# Altium schematic symbol library General.SchLib: 201 symbols (part 3 of 3)
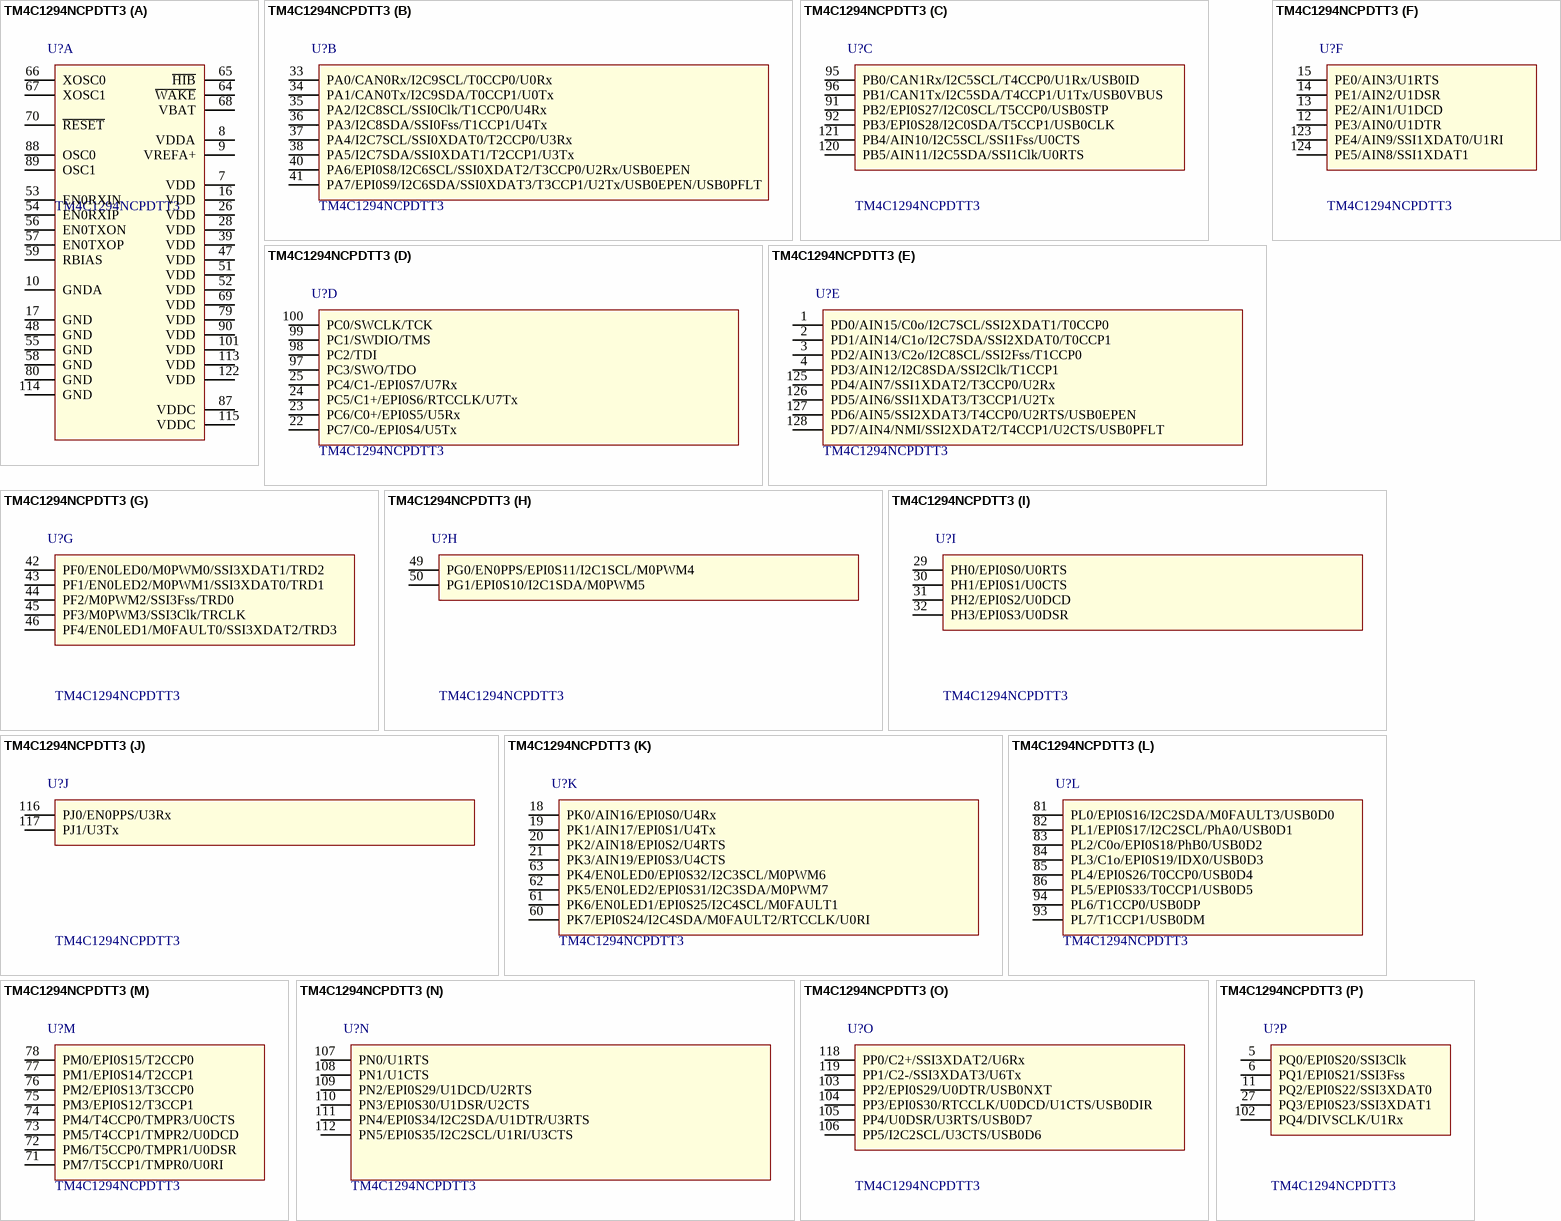
[diagram p9: symbol TM4C1294NCPDTT3]

## TM4C1294NCPDTT3
designator U?  Part Number: TM4C1294NCPDTT3  (hidden comment: *)
IC MCU 32BIT 1024KB FLASH 128TQF; Manufacturer: Texas Instruments; Supplier 1: Digi-Key; Supplier Part Number 1: 296-37943-ND; Supplier 2: Mouser; Supplier Part Number 2: 595-TM4C1294NCPDTT3
footprint TQFP128 - TSQFP40P1600X1600X120-128N (TSQFP, 128-Leads, Body 14.00x14.00mm, Pitch 0.40mm, IPC Medium Density)
part A pins: 7 VDD, 8 VDDA, 9 VREFA+, 10 GNDA, 16 VDD, 17 GND, 26 VDD, 28 VDD, 39 VDD, 47 VDD, 48 GND, 51 VDD, 52 VDD, 53 EN0RXIN, 54 EN0RXIP, 55 GND, 56 EN0TXON, 57 EN0TXOP, 58 GND, 59 RBIAS, 64 ~{WAKE}, 65 ~{HIB}, 66 XOSC0, 67 XOSC1, 68 VBAT, 69 VDD, 70 ~{RESET}, 79 VDD, 80 GND, 87 VDDC, 88 OSC0, 89 OSC1, 90 VDD, 101 VDD, 113 VDD, 114 GND, 115 VDDC, 122 VDD
part B pins: 33 PA0/CAN0Rx/I2C9SCL/T0CCP0/U0Rx, 34 PA1/CAN0Tx/I2C9SDA/T0CCP1/U0Tx, 35 PA2/I2C8SCL/SSI0Clk/T1CCP0/U4Rx, 36 PA3/I2C8SDA/SSI0Fss/T1CCP1/U4Tx, 37 PA4/I2C7SCL/SSI0XDAT0/T2CCP0/U3Rx, 38 PA5/I2C7SDA/SSI0XDAT1/T2CCP1/U3Tx, 40 PA6/EPI0S8/I2C6SCL/SSI0XDAT2/T3CCP0/U2Rx/USB0EPEN, 41 PA7/EPI0S9/I2C6SDA/SSI0XDAT3/T3CCP1/U2Tx/USB0EPEN/USB0PFLT
part C pins: 91 PB2/EPI0S27/I2C0SCL/T5CCP0/USB0STP, 92 PB3/EPI0S28/I2C0SDA/T5CCP1/USB0CLK, 95 PB0/CAN1Rx/I2C5SCL/T4CCP0/U1Rx/USB0ID, 96 PB1/CAN1Tx/I2C5SDA/T4CCP1/U1Tx/USB0VBUS, 120 PB5/AIN11/I2C5SDA/SSI1Clk/U0RTS, 121 PB4/AIN10/I2C5SCL/SSI1Fss/U0CTS
part D pins: 22 PC7/C0-/EPI0S4/U5Tx, 23 PC6/C0+/EPI0S5/U5Rx, 24 PC5/C1+/EPI0S6/RTCCLK/U7Tx, 25 PC4/C1-/EPI0S7/U7Rx, 97 PC3/SWO/TDO, 98 PC2/TDI, 99 PC1/SWDIO/TMS, 100 PC0/SWCLK/TCK
part E pins: 1 PD0/AIN15/C0o/I2C7SCL/SSI2XDAT1/T0CCP0, 2 PD1/AIN14/C1o/I2C7SDA/SSI2XDAT0/T0CCP1, 3 PD2/AIN13/C2o/I2C8SCL/SSI2Fss/T1CCP0, 4 PD3/AIN12/I2C8SDA/SSI2Clk/T1CCP1, 125 PD4/AIN7/SSI1XDAT2/T3CCP0/U2Rx, 126 PD5/AIN6/SSI1XDAT3/T3CCP1/U2Tx, 127 PD6/AIN5/SSI2XDAT3/T4CCP0/U2RTS/USB0EPEN, 128 PD7/AIN4/NMI/SSI2XDAT2/T4CCP1/U2CTS/USB0PFLT
part F pins: 12 PE3/AIN0/U1DTR, 13 PE2/AIN1/U1DCD, 14 PE1/AIN2/U1DSR, 15 PE0/AIN3/U1RTS, 123 PE4/AIN9/SSI1XDAT0/U1RI, 124 PE5/AIN8/SSI1XDAT1
part G pins: 42 PF0/EN0LED0/M0PWM0/SSI3XDAT1/TRD2, 43 PF1/EN0LED2/M0PWM1/SSI3XDAT0/TRD1, 44 PF2/M0PWM2/SSI3Fss/TRD0, 45 PF3/M0PWM3/SSI3Clk/TRCLK, 46 PF4/EN0LED1/M0FAULT0/SSI3XDAT2/TRD3
part H pins: 49 PG0/EN0PPS/EPI0S11/I2C1SCL/M0PWM4, 50 PG1/EPI0S10/I2C1SDA/M0PWM5
part I pins: 29 PH0/EPI0S0/U0RTS, 30 PH1/EPI0S1/U0CTS, 31 PH2/EPI0S2/U0DCD, 32 PH3/EPI0S3/U0DSR
part J pins: 116 PJ0/EN0PPS/U3Rx, 117 PJ1/U3Tx
part K pins: 18 PK0/AIN16/EPI0S0/U4Rx, 19 PK1/AIN17/EPI0S1/U4Tx, 20 PK2/AIN18/EPI0S2/U4RTS, 21 PK3/AIN19/EPI0S3/U4CTS, 60 PK7/EPI0S24/I2C4SDA/M0FAULT2/RTCCLK/U0RI, 61 PK6/EN0LED1/EPI0S25/I2C4SCL/M0FAULT1, 62 PK5/EN0LED2/EPI0S31/I2C3SDA/M0PWM7, 63 PK4/EN0LED0/EPI0S32/I2C3SCL/M0PWM6
part L pins: 81 PL0/EPI0S16/I2C2SDA/M0FAULT3/USB0D0, 82 PL1/EPI0S17/I2C2SCL/PhA0/USB0D1, 83 PL2/C0o/EPI0S18/PhB0/USB0D2, 84 PL3/C1o/EPI0S19/IDX0/USB0D3, 85 PL4/EPI0S26/T0CCP0/USB0D4, 86 PL5/EPI0S33/T0CCP1/USB0D5, 93 PL7/T1CCP1/USB0DM, 94 PL6/T1CCP0/USB0DP
part M pins: 71 PM7/T5CCP1/TMPR0/U0RI, 72 PM6/T5CCP0/TMPR1/U0DSR, 73 PM5/T4CCP1/TMPR2/U0DCD, 74 PM4/T4CCP0/TMPR3/U0CTS, 75 PM3/EPI0S12/T3CCP1, 76 PM2/EPI0S13/T3CCP0, 77 PM1/EPI0S14/T2CCP1, 78 PM0/EPI0S15/T2CCP0
part N pins: 107 PN0/U1RTS, 108 PN1/U1CTS, 109 PN2/EPI0S29/U1DCD/U2RTS, 110 PN3/EPI0S30/U1DSR/U2CTS, 111 PN4/EPI0S34/I2C2SDA/U1DTR/U3RTS, 112 PN5/EPI0S35/I2C2SCL/U1RI/U3CTS
part O pins: 103 PP2/EPI0S29/U0DTR/USB0NXT, 104 PP3/EPI0S30/RTCCLK/U0DCD/U1CTS/USB0DIR, 105 PP4/U0DSR/U3RTS/USB0D7, 106 PP5/I2C2SCL/U3CTS/USB0D6, 118 PP0/C2+/SSI3XDAT2/U6Rx, 119 PP1/C2-/SSI3XDAT3/U6Tx
part P pins: 5 PQ0/EPI0S20/SSI3Clk, 6 PQ1/EPI0S21/SSI3Fss, 11 PQ2/EPI0S22/SSI3XDAT0, 27 PQ3/EPI0S23/SSI3XDAT1, 102 PQ4/DIVSCLK/U1Rx

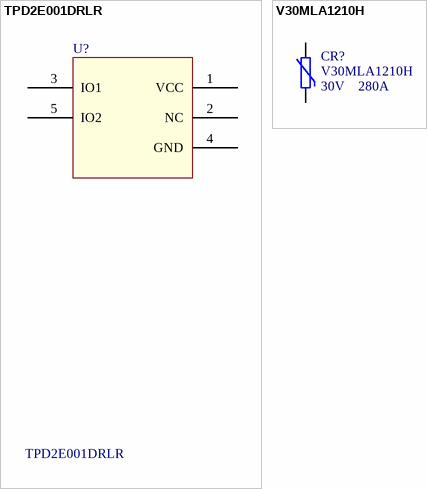
[diagram p7: symbols TPD2E001DRLR to V30MLA1210H]

## TPD2E001DRLR
designator U?
TVS DIODE 5.5V SOT5; Manufacturer: Texas Instruments; Supplier 1: Digi-Key; Supplier Part Number 1: 296-21883-1-ND; Supplier 2: Mouser; Supplier Part Number 2: 595-TPD2E001DRLR; Part Number: TPD2E001DRLR
footprint SOT50P160X60-5N (SOT23, 5-Leads, Body 1,60x1,60mm, Pitch 0,50mm, IPC Medium Density)
pins: 1 VCC, 2 NC, 3 IO1, 4 GND, 5 IO2

## V30MLA1210H
designator CR?  Voltage DC: 30V  Current Surge: 280A  (hidden comment: V30MLA1210H)
VARISTOR TVS MULTI 30V 280A 1210; Manufacturer: Littlefuse; Supplier 1: Digi-Key; Supplier 2: Mouser; Supplier Part Number 1: F2201CT-ND; Supplier Part Number 2: 576-V30MLA1210H; Part Number: V30MLA1210H
footprint 1210 - VARISTOR - RESC3225X29N (Chip, 2-Leads, Body 3.2x2.5mm, IPC Medium Density)
pins: 1, 2